# EAGLE library part ESP32-PICO-D4 (library ESP32-PICO-D4)
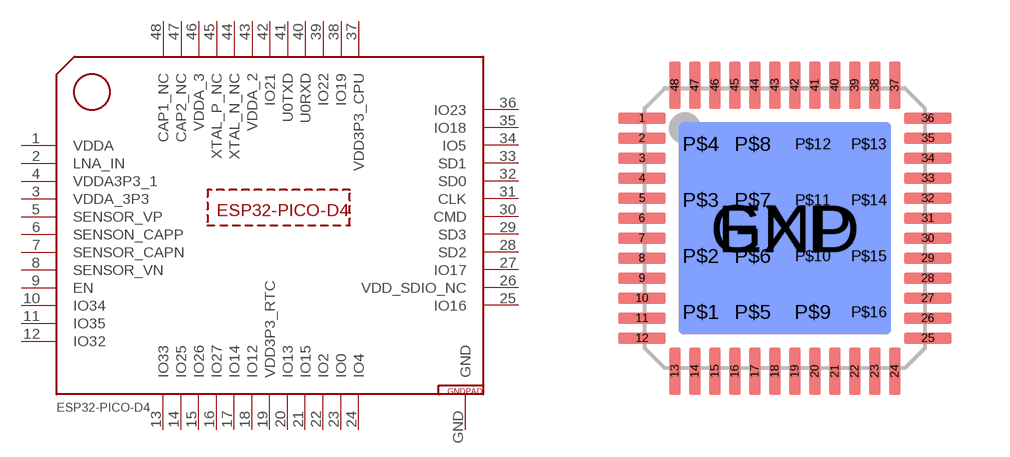
[diagram p0: symbol with the pads of QFN48; footprint QFN48]

Designator prefix -

## ESP32-PICO-D4  [QFN48]
1  VDDA  pwr
2  LNA_IN
3  VDDA_3P3  pwr
4  VDDA3P3_1  pwr
5  SENSOR_VP  in
6  SENSON_CAPP  in
7  SENSOR_CAPN  in
8  SENSOR_VN  in
9  EN  in
10  IO34
11  IO35
12  IO32
13  IO33
14  IO25
15  IO26
16  IO27
17  IO14
18  IO12
19  VDD3P3_RTC  pwr
20  IO13
21  IO15
22  IO2
23  IO0
24  IO4
25  IO16
26  VDD_SDIO_NC  pwr
27  IO17
28  SD2
29  SD3
30  CMD
31  CLK
32  SD0
33  SD1
34  IO5
35  IO18
36  IO23
37  VDD3P3_CPU  pwr
38  IO19
39  IO22
40  U0RXD
41  U0TXD
42  IO21
43  VDDA_2  pwr
44  XTAL_N_NC
45  XTAL_P_NC
46  VDDA_3  pwr
47  CAP2_NC
48  CAP1_NC
GND  GND  pwr

## Footprint QFN48 (pad centres in mm)
48-pin QFN 7 x 7 mm LF48 ESP32 PICO D4 SIP Chip eagle library. Designed on the basis of engineering dimensiions from Official documentation <https://www.espressif.com/sites/default/files/documentation/esp32-pico-d4_datasheet_en.pdf>
smd 1.2 x 0.3: 1 -3.575,2.75; 2 -3.575,2.25; 3 -3.575,1.75; 4 -3.575,1.25; 5 -3.575,0.75; 6 -3.575,0.25; 7 -3.575,-0.25; 8 -3.575,-0.75; 9 -3.575,-1.25; 10 -3.575,-1.75; 11 -3.575,-2.25; 12 -3.575,-2.75; 25 3.575,-2.75; 26 3.575,-2.25; 27 3.575,-1.75; 28 3.575,-1.25; 29 3.575,-0.75; 30 3.575,-0.25; 31 3.575,0.25; 32 3.575,0.75; 33 3.575,1.25; 34 3.575,1.75; 35 3.575,2.25; 36 3.575,2.75
smd 0.3 x 1.2: 13 -2.75,-3.575; 14 -2.25,-3.575; 15 -1.75,-3.575; 16 -1.25,-3.575; 17 -0.75,-3.575; 18 -0.25,-3.575; 19 0.25,-3.575; 20 0.75,-3.575; 21 1.25,-3.575; 22 1.75,-3.575; 23 2.25,-3.575; 24 2.75,-3.575; 37 2.75,3.575; 38 2.25,3.575; 39 1.75,3.575; 40 1.25,3.575; 41 0.75,3.575; 42 0.25,3.575; 43 -0.25,3.575; 44 -0.75,3.575; 45 -1.25,3.575; 46 -1.75,3.575; 47 -2.25,3.575; 48 -2.75,3.575
smd 5.309 x 5.309: EXP 0,0
smd 5.309 x 5.309 bottom: GND 0,0
drill 0.2 pad 0.813: P$1 -2.1,-2.1; P$2 -2.1,-0.7; P$3 -2.1,0.7; P$4 -2.1,2.1; P$5 -0.8,-2.1; P$6 -0.8,-0.7; P$7 -0.8,0.7; P$8 -0.8,2.1; P$9 0.7,-2.1; P$10 0.7,-0.7; P$11 0.7,0.7; P$12 0.7,2.1; P$13 2.1,2.1; P$14 2.1,0.7; P$15 2.1,-0.7; P$16 2.1,-2.1